# Altium schematic symbol library CMA-5043&plus_.SchLib: 2 symbols
Pins are listed as number, name and electrical type; pins without a type are passive.

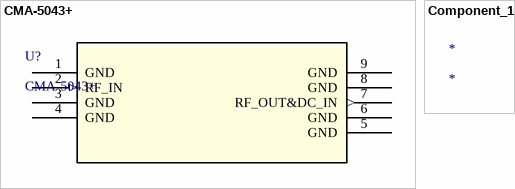
[diagram p0: symbols CMA-5043+ to Component_1]

## CMA-5043+
designator U?
No Description Available; Mfr_Name: Mini Circuits; Copyright: Copyright (C) 2022 Ultra Librarian. All rights reserved.; Manufacturer_Part_Number: CMA-5043+; RefDes: RefDes; Type: DEV
footprint DL1721_MNC
pins: 1 GND, 2 RF_IN (in), 3 GND, 4 GND, 5 GND, 6 GND, 7 RF_OUT&DC_IN (out), 8 GND, 9 GND

## Component_1
designator *